# EAGLE library part UCDIMM (library uC-DIMM)
Lineo's uC-DIMM module with AMP SO-DIMM Socket Standart uC-DIMM bus for all Lineo's Embedded Linux modules www.lineo.com
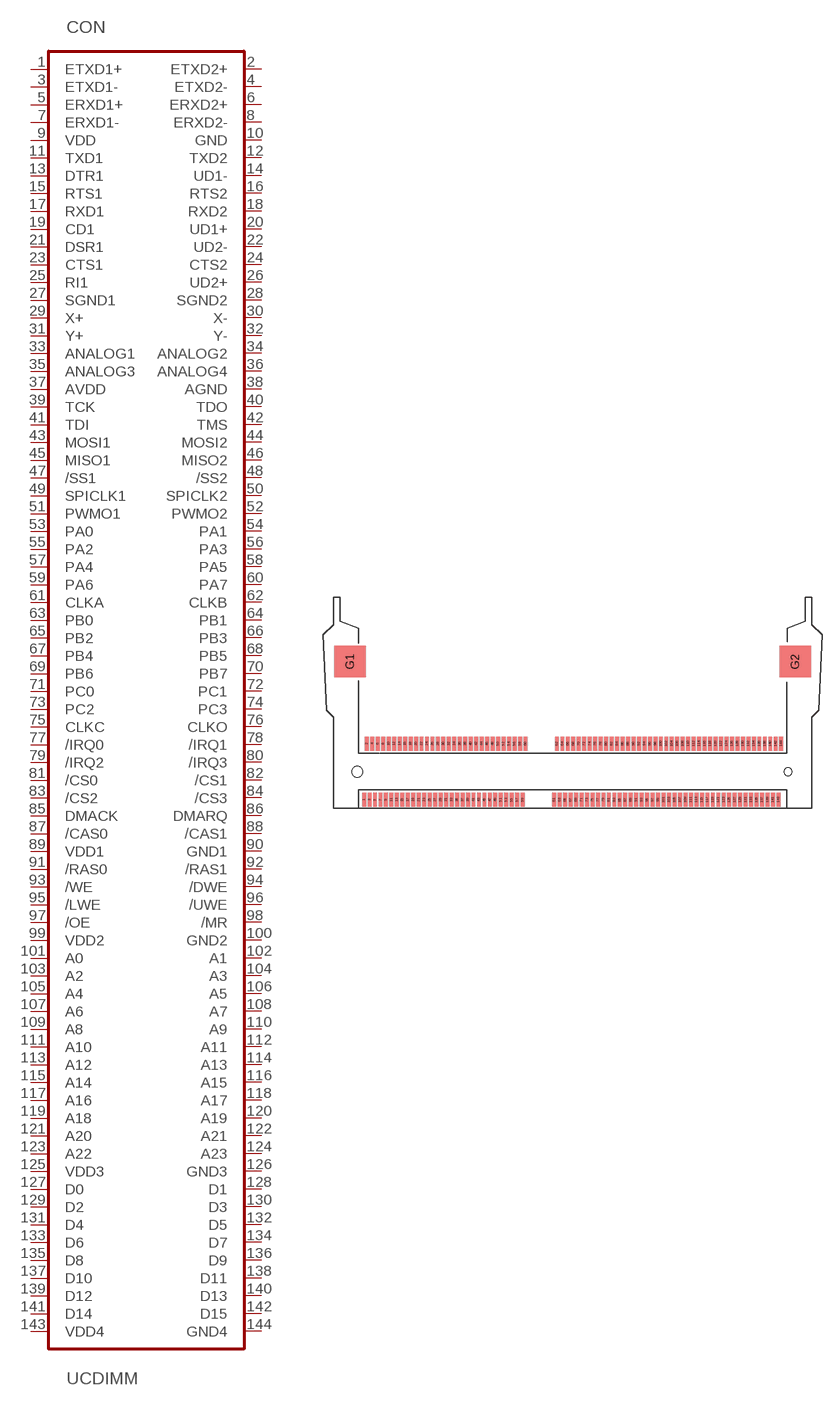
[diagram p0: symbol with the pads of SO-DIMM; footprint SO-DIMM]

Designator prefix CON

## UCDIMM-SOCKET  [SO-DIMM]
1  ETXD1+
2  ETXD2+
3  ETXD1-
4  ETXD2-
5  ERXD1+
6  ERXD2+
7  ERXD1-
8  ERXD2-
9  VDD
10  GND
11  TXD1
12  TXD2
13  DTR1
14  UD1-
15  RTS1
16  RTS2
17  RXD1
18  RXD2
19  CD1
20  UD1+
21  DSR1
22  UD2-
23  CTS1
24  CTS2
25  RI1
26  UD2+
27  SGND1
28  SGND2
29  X+
30  X-
31  Y+
32  Y-
33  ANALOG1
34  ANALOG2
35  ANALOG3
36  ANALOG4
37  AVDD
38  AGND
39  TCK
40  TDO
41  TDI
42  TMS
43  MOSI1
44  MOSI2
45  MISO1
46  MISO2
47  /SS1
48  /SS2
49  SPICLK1
50  SPICLK2
51  PWMO1
52  PWMO2
53  PA0
54  PA1
55  PA2
56  PA3
57  PA4
58  PA5
59  PA6
60  PA7
61  CLKA
62  CLKB
63  PB0
64  PB1
65  PB2
66  PB3
67  PB4
68  PB5
69  PB6
70  PB7
71  PC0
72  PC1
73  PC2
74  PC3
75  CLKC
76  CLKO
77  /IRQ0
78  /IRQ1
79  /IRQ2
80  /IRQ3
81  /CS0
82  /CS1
83  /CS2
84  /CS3
85  DMACK
86  DMARQ
87  /CAS0
88  /CAS1
89  VDD1
90  GND1
91  /RAS0
92  /RAS1
93  /WE
94  /DWE
95  /LWE
96  /UWE
97  /OE
98  /MR
99  VDD2
100  GND2
101  A0
102  A1
103  A2
104  A3
105  A4
106  A5
107  A6
108  A7
109  A8
110  A9
111  A10
112  A11
113  A12
114  A13
115  A14
116  A15
117  A16
118  A17
119  A18
120  A19
121  A20
122  A21
123  A22
124  A23
125  VDD3
126  GND3
127  D0
128  D1
129  D2
130  D3
131  D4
132  D5
133  D6
134  D7
135  D8
136  D9
137  D10
138  D11
139  D12
140  D13
141  D14
142  D15
143  VDD4
144  GND4

## Footprint SO-DIMM (pad centres in mm)
AMP 390332-1 SO-DIMM Socket
smd 0.5 x 2: 1 -26.94,-4.1; 2 -26.54,4.1; 3 -26.14,-4.1; 4 -25.74,4.1; 5 -25.34,-4.1; 6 -24.94,4.1; 7 -24.54,-4.1; 8 -24.14,4.1; 9 -23.74,-4.1; 10 -23.34,4.1; 11 -22.94,-4.1; 12 -22.54,4.1; 13 -22.14,-4.1; 14 -21.74,4.1; 15 -21.34,-4.1; 16 -20.94,4.1; 17 -20.54,-4.1; 18 -20.14,4.1; 19 -19.74,-4.1; 20 -19.34,4.1; 21 -18.94,-4.1; 22 -18.54,4.1; 23 -18.14,-4.1; 24 -17.74,4.1; 25 -17.34,-4.1; 26 -16.94,4.1; 27 -16.54,-4.1; 28 -16.14,4.1; 29 -15.74,-4.1; 30 -15.34,4.1; 31 -14.94,-4.1; 32 -14.54,4.1; 33 -14.14,-4.1; 34 -13.74,4.1; 35 -13.34,-4.1; 36 -12.94,4.1; 37 -12.54,-4.1; 38 -12.14,4.1; 39 -11.74,-4.1; 40 -11.34,4.1; 41 -10.94,-4.1; 42 -10.54,4.1; 43 -10.14,-4.1; 44 -9.74,4.1; 45 -9.34,-4.1; 46 -8.94,4.1; 47 -8.54,-4.1; 48 -8.14,4.1; 49 -7.74,-4.1; 50 -7.34,4.1; 51 -6.94,-4.1; 52 -6.54,4.1; 53 -6.14,-4.1; 54 -5.74,4.1; 55 -5.34,-4.1; 56 -4.94,4.1; 57 -4.54,-4.1; 58 -4.14,4.1; 59 -3.74,-4.1; 60 -3.34,4.1; 61 0.86,-4.1; 62 1.26,4.1; 63 1.66,-4.1; 64 2.06,4.1; 65 2.46,-4.1; 66 2.86,4.1; 67 3.26,-4.1; 68 3.66,4.1; 69 4.06,-4.1; 70 4.46,4.1; 71 4.86,-4.1; 72 5.26,4.1; 73 5.66,-4.1; 74 6.06,4.1; 75 6.46,-4.1; 76 6.86,4.1; 77 7.26,-4.1; 78 7.66,4.1; 79 8.06,-4.1; 80 8.46,4.1; 81 8.86,-4.1; 82 9.26,4.1; 83 9.66,-4.1; 84 10.06,4.1; 85 10.46,-4.1; 86 10.86,4.1; 87 11.26,-4.1; 88 11.66,4.1; 89 12.06,-4.1; 90 12.46,4.1; 91 12.86,-4.1; 92 13.26,4.1; 93 13.66,-4.1; 94 14.06,4.1; 95 14.46,-4.1; 96 14.86,4.1; 97 15.26,-4.1; 98 15.66,4.1; 99 16.06,-4.1; 100 16.46,4.1; 101 16.86,-4.1; 102 17.26,4.1; 103 17.66,-4.1; 104 18.06,4.1; 105 18.46,-4.1; 106 18.86,4.1; 107 19.26,-4.1; 108 19.66,4.1; 109 20.06,-4.1; 110 20.46,4.1; 111 20.86,-4.1; 112 21.26,4.1; 113 21.66,-4.1; 114 22.06,4.1; 115 22.46,-4.1; 116 22.86,4.1; 117 23.26,-4.1; 118 23.66,4.1; 119 24.06,-4.1; 120 24.46,4.1; 121 24.86,-4.1; 122 25.26,4.1; 123 25.66,-4.1; 124 26.06,4.1; 125 26.46,-4.1; 126 26.86,4.1; 127 27.26,-4.1; 128 27.66,4.1; 129 28.06,-4.1; 130 28.46,4.1; 131 28.86,-4.1; 132 29.26,4.1; 133 29.66,-4.1; 134 30.06,4.1; 135 30.46,-4.1; 136 30.86,4.1; 137 31.26,-4.1; 138 31.66,4.1; 139 32.06,-4.1; 140 32.46,4.1; 141 32.86,-4.1; 142 33.26,4.1; 143 33.66,-4.1; 144 34.06,4.1
smd 4.5 x 4.6: G1 -28.99,16.1; G2 36.11,16.1
hole 1.6 at -27.94,0
hole 1.1 at 35.06,0